# EAGLE library part PRO-MINI-SERIAL-PROGRAMMER (library proMiniSerialProgrammer)
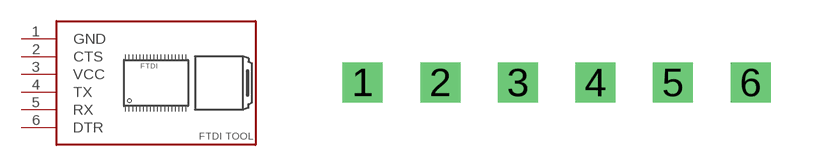
[diagram p0: symbol with the pads of DUMMY_6PAD; footprint DUMMY_6PAD]

Designator prefix -

## PRO-MINI-SERIAL-PROGRAMMER  [DUMMY_6PAD]
1  GND
2  CTS  in
3  VCC  out
4  TX
5  RX
6  DTR

## Footprint DUMMY_6PAD (pad centres in mm)
drill 0.8 square: 1 -5.08,0; 2 -2.54,0; 3 0,0; 4 2.54,0; 5 5.08,0; 6 7.62,0